# EAGLE library part USB_3.0 (library bschulz)
Generic USB 3.0 Connector
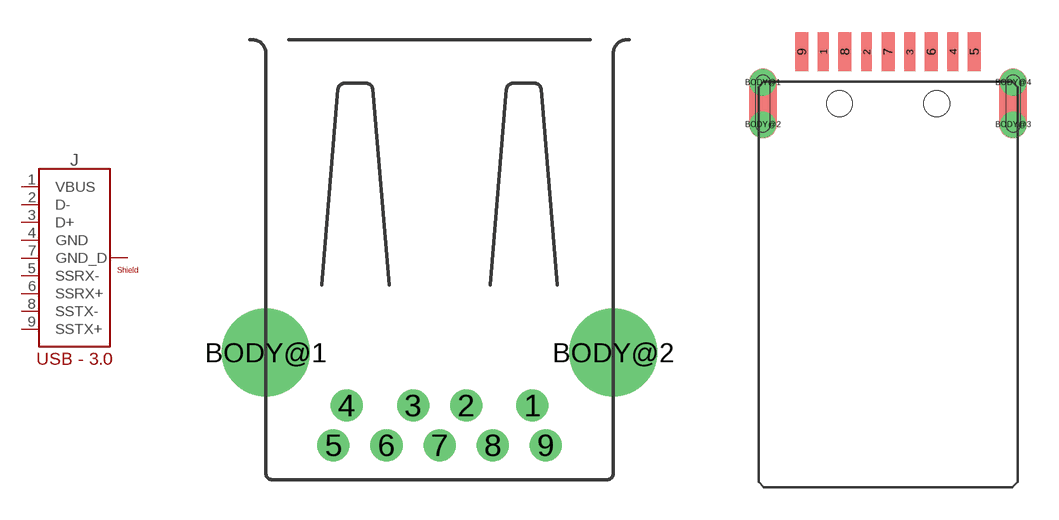
[diagram p141: symbol with the pads of USB_A_3.0_FEMALE_TENSILITY; footprints USB_A_3.0_FEMALE_TENSILITY, USB_A_3.0_MALE_TENSILITY]

Designator prefix J

## USB_3.0FEMALE_TENSILITY (MF: Tensility; MPN: 54-00007)  [USB_A_3.0_FEMALE_TENSILITY]
1  VBUS  pwr
2  D-
3  D+
4  GND  pwr
5  SSRX-
6  SSRX+
7  GND_D  pwr
8  SSTX-
9  SSTX+
BODY@1  SHIELD
BODY@2  SHIELD

## USB_3.0MALE_TENSILITY (MF: Tensility; MPN: 50-00469)  [USB_A_3.0_MALE_TENSILITY]
1  GND  pwr
2  D+
3  D-
4  VBUS  pwr
5  SSTX+
6  SSTX-
7  GND_D  pwr
8  SSRX+
9  SSRX-
BODY@1  SHIELD
BODY@2  SHIELD
BODY@3  SHIELD
BODY@4  SHIELD

## Footprint USB_A_3.0_FEMALE_TENSILITY (pad centres in mm)
USB-A, 3.0, Female Tensility, 50-00007 Datasheet <https://static6.arrow.com/aropdfconversion/1e71487a9ceec913ad6dab7dadb7a411948b567b/14_mar_2019_05_24_48_54-00007_reva1.pdf>
drill 0.7: 1 3.5,-2; 2 1,-2; 3 -1,-2; 4 -3.5,-2; 5 -4,-3.5; 6 -2,-3.5; 7 0,-3.5; 8 2,-3.5; 9 4,-3.5
drill 2.3: BODY@1 -6.55,0; BODY@2 6.55,0

## Footprint USB_A_3.0_MALE_TENSILITY (pad centres in mm)
USB-A, 3.0, Male Tensility, 50-00469 Datasheet <https://static6.arrow.com/aropdfconversion/706db218aacada9dc8124e7d293f50d27ddcc81d/14_mar_2019_05_24_46_50-00469_reva3.pdf>
smd 0.5 x 1.8: 1 -3,2.4; 2 -1,2.4; 3 1,2.4; 4 3,2.4
smd 0.6 x 1.8: 5 4,2.4; 6 2,2.4; 7 0,2.4; 8 -2,2.4; 9 -4,2.4
drill 0.7: BODY@1 -5.8,0.975; BODY@2 -5.8,-0.975; BODY@3 5.8,-0.975; BODY@4 5.8,0.975
hole 1.2 at -2.25,0
hole 1.2 at 2.25,0